# EAGLE library part PCA9306D,112 (library PCA9306D_112)
Dual bidirectional I2C-bus and SMBus voltage-level translator Check availability <https://pricing.snapeda.com/parts/PCA9306D%2C112/NXP%20USA/view-part?ref=eda>
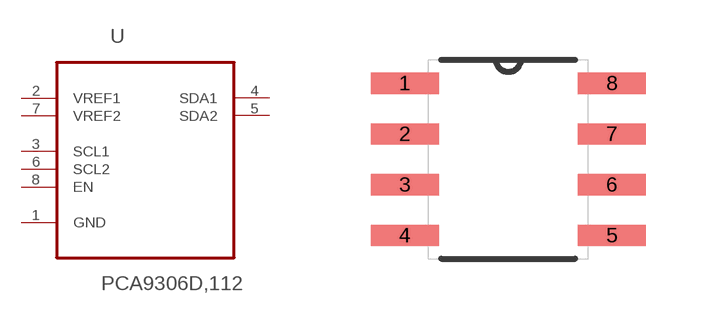
[diagram p0: symbol with the pads of SOIC127P600X175-8N; footprint SOIC127P600X175-8N]

Designator prefix U

## PCA9306D,112 (Availability: In Stock; Description: Voltage Level Translator Bidirectional 1 Circuit 2 Channel - 8-SO; MF: NXP USA; MP: PCA9306D,112; Package: SO-8 NXP Semiconductors; Price: None; Purchase-URL: https://pricing.snapeda.com/search/part/PCA9306D,112/?ref=eda)  [SOIC127P600X175-8N]
1  GND  pas
2  VREF1  pwr
3  SCL1  in
4  SDA1
5  SDA2
6  SCL2  in
7  VREF2  pwr
8  EN  in

## Footprint SOIC127P600X175-8N (pad centres in mm)
smd 1.702 x 0.533: 1 -2.591,1.905; 2 -2.591,0.635; 3 -2.591,-0.635; 4 -2.591,-1.905; 5 2.591,-1.905; 6 2.591,-0.635; 7 2.591,0.635; 8 2.591,1.905